# Altium footprint library WA-BCMC.PcbLib: 6 footprints
Each footprint in its own frame and in the unit in brackets; x right, y up, seen from the top. Pads: shape width x height; smd on the part's side, far side on the other; paste and mask are expansions set on the pad; w line width, h text height; cw(c..) or ccw(c..) is an arc to the next point about the centre after c.
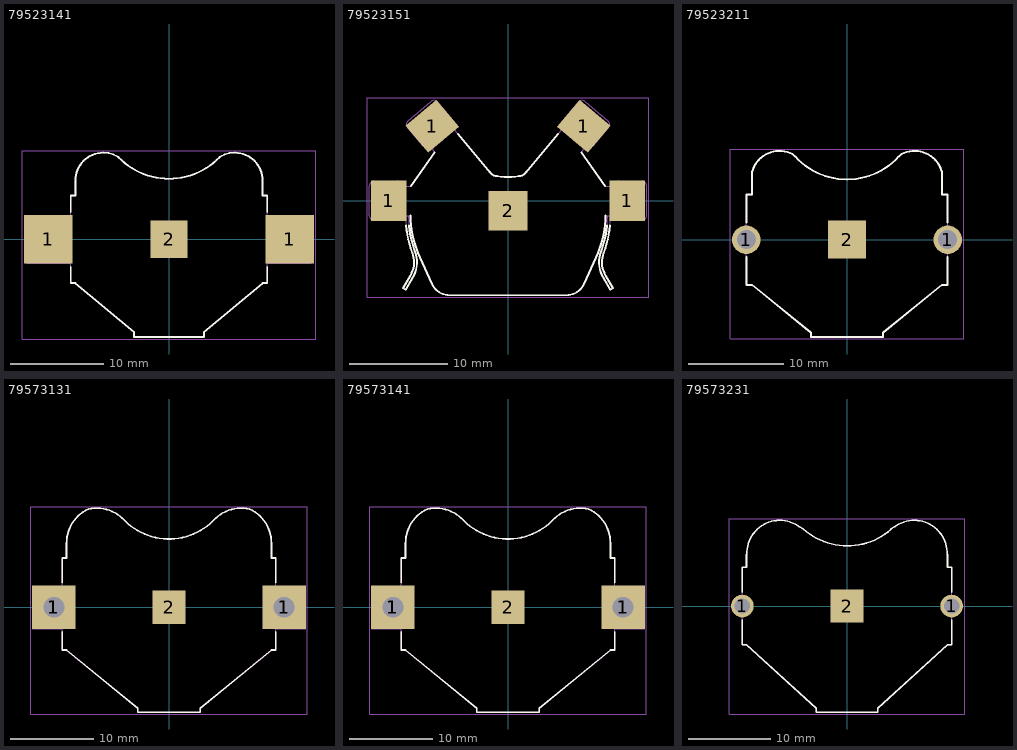
[diagram p0: the footprints below, top view; thin cyan lines are the x and y axes]

## 79523141 [mm] "Battery Holder, Battery Type: 2016,2020,2025,2032"
height 3.85
pads (3):
  rect 5.2x5.2 smd: 1(-12.95,0) 1(12.95,0)
  rect 4x4 smd: 2(0,0)
Top Overlay:
  lines w0.2: -10.55,-2.95 -10.55,-4.7 -10.05,-4.7 -3.743,-9.992 ; -10.55,2.95 -10.55,4.7 -10.05,4.7 -10.05,6.3 cw(c-7.05,6.3) -5.426,8.823 ccw(c0,14) 5.426,8.823 cw(c7.05,6.3) 10.05,6.3 10.05,4.7 10.55,4.7 10.55,2.95 ; -3.75,-10 -3.75,-10.5 3.75,-10.5 3.75,-10 ; 3.743,-9.992 10.05,-4.7 10.55,-4.7 10.55,-2.95
Top Solder:
  region: -10.55,-4.7 -10.55,-2.55 -15.25,-2.55 -15.25,2.55 -10.55,2.55 -10.55,4.7 -10.05,4.7 -10.05,6.3 -10.05,6.569 -9.955,7.097 -9.767,7.6 -9.493,8.062 -9.141,8.468 -8.723,8.805 -8.251,9.062 -7.741,9.232 -7.21,9.308 -6.673,9.288 -6.148,9.174 -5.652,8.968 -5.426,8.823 -5.158,8.555 -4.582,8.062 -3.959,7.63 -3.296,7.263 -2.599,6.965 -1.876,6.738 -1.133,6.586 -0.379,6.51 0.379,6.51 1.133,6.586 1.876,6.738 2.599,6.965 3.296,7.263 3.959,7.63 4.582,8.062 5.158,8.555 5.426,8.823 5.652,8.968 6.148,9.174 6.673,9.288 7.21,9.308 7.741,9.232 8.251,9.062 8.723,8.805 9.141,8.468 9.493,8.062 9.767,7.6 9.955,7.097 10.05,6.569 10.05,6.3 10.05,4.7 10.55,4.7 10.55,2.55 15.25,2.55 15.25,-2.55 10.55,-2.55 10.55,-4.7 10.05,-4.7 3.743,-9.992 3.75,-10 3.75,-10.5 -3.75,-10.5 -3.75,-10 -3.743,-9.992 -10.05,-4.7
Notes:
  text "open landscape for no solder resist" at -10.35,-11.6 h0.81
Top Designator:
  text ".Designator" at -7.498,-0.5 h1.5
Top Component Outline:
  lines w0.1: -3.75,-10 -3.75,-10.5 3.75,-10.5 3.75,-10 ; -3.743,-9.992 -10.05,-4.7 -10.55,-4.7 -10.55,-2.55 -15.25,-2.55 -15.25,2.55 -10.55,2.55 -10.55,4.7 -10.05,4.7 -10.05,6.3 cw(c-7.05,6.3) -5.426,8.823 ccw(c0,14) 5.426,8.823 cw(c7.05,6.3) 10.05,6.3 10.05,4.7 10.55,4.7 10.55,2.55 15.25,2.55 15.25,-2.55 10.55,-2.55 10.55,-4.7 10.05,-4.7 3.743,-9.992
Top 3D Body:
  lines w0.1: -3.75,-10 -3.75,-10.5 3.75,-10.5 3.75,-10 ; -3.743,-9.992 -10.05,-4.7 -10.55,-4.7 -10.55,-2.55 -15.25,-2.55 -15.25,2.55 -10.55,2.55 -10.55,4.7 -10.05,4.7 -10.05,6.3 cw(c-7.05,6.3) -5.426,8.823 ccw(c0,14) 5.426,8.823 cw(c7.05,6.3) 10.05,6.3 10.05,4.7 10.55,4.7 10.55,2.55 15.25,2.55 15.25,-2.55 10.55,-2.55 10.55,-4.7 10.05,-4.7 3.743,-9.992
Top Courtyard:
  lines w0.05: -0.5,0 0.5,0 ; 0,-0.5 0,0.5 ; -15.75,-10.7 -15.75,9.5 15.75,9.5 15.75,-10.7 -15.75,-10.7
3D body "79523141.stp": height 4, standoff 0.15, extent -15.25,-10.5 15.25,9.3

## 79523151 [mm]
pads (5):
  rect 3.6x4.1 smd: 1(-12.105,0) 1(12.105,0)
  rect 3.6x4.1 smd rot 130: 1(-7.715,7.59)
  rect 3.6x4.1 smd rot 50: 1(7.715,7.59)
  rect 4x4 smd: 2(0,-1)
Top Overlay:
  lines w0.2: -10.367,-2.497 ccw(c-0.006,-1.595) -9.731,-5.283 cw(c-12.255,-6.241) -9.916,-7.59 -10.666,-8.889 -10.406,-9.039 -9.656,-7.74 ; -10.074,-2.497 ccw(c0.278,-1.491) -9.446,-5.179 cw(c-12.251,-6.244) -9.653,-7.743 ; -9.905,-1.5 ccw(c-0.005,-1.5) -8.938,-5.768 ; -9.865,1.5 -7.456,4.94 ; -8.935,-5.766 -7.735,-8.45 ccw(c-5.924,-7.599) -5.924,-9.6 5.915,-9.6 ; -5.089,6.794 -1.791,2.863 ; -1.846,2.93 ccw(c-1.025,3.5) -1.12,2.505 ccw(c-0.005,8.4) 1.12,2.506 ; 1.12,2.505 ccw(c1.025,3.5) 1.846,2.93 ; 1.791,2.863 5.089,6.794 ; 5.924,-9.6 ccw(c5.924,-7.599) 7.735,-8.45 8.935,-5.766 ; 7.456,4.94 9.865,1.5 ; 8.938,-5.768 ccw(c0.005,-1.5) 9.905,-1.5 ; 9.653,-7.743 cw(c12.251,-6.244) 9.446,-5.179 ccw(c-0.278,-1.491) 10.074,-2.497 ; 9.656,-7.74 10.406,-9.039 10.666,-8.889 9.916,-7.59 cw(c12.255,-6.241) 9.731,-5.283 ccw(c0.006,-1.595) 10.367,-2.497
Notes:
  lines w0.1: -8.938,-5.768 cw(c-0.005,-1.5) -9.905,-1.5 -10.775,-1.5 -10.775,1.5 -9.865,1.5 -7.456,4.94 -8.013,5.604 ; -8.935,-5.766 -7.735,-8.45 ccw(c-5.924,-7.599) -5.924,-9.6 5.915,-9.6 ; -8.013,5.604 -5.715,7.532 ; -5.711,7.535 -1.791,2.863 ; -1.846,2.93 ccw(c-1.025,3.5) -1.12,2.505 ccw(c-0.005,8.4) 1.12,2.506 ; 1.12,2.505 ccw(c1.025,3.5) 1.846,2.93 ; 1.791,2.863 5.711,7.535 ; 5.714,7.532 8.013,5.604 7.456,4.94 9.865,1.5 10.775,1.5 10.775,-1.5 9.905,-1.5 cw(c0.005,-1.5) 8.938,-5.768 ; 5.924,-9.6 ccw(c5.924,-7.599) 7.735,-8.45 8.935,-5.766
Top Designator:
  text ".Designator" at -7.498,-0.5 h1.5
Top Component Outline:
  lines w0.1: -10.406,-1.504 ccw(c-0.006,-1.595) -9.731,-5.283 cw(c-12.255,-6.241) -9.916,-7.59 -10.666,-8.889 -10.406,-9.039 -9.656,-7.74 ; -10.122,-1.5 ccw(c0.278,-1.491) -9.446,-5.179 cw(c-12.251,-6.244) -9.653,-7.743 ; -8.938,-5.768 cw(c-0.005,-1.5) -9.905,-1.5 -10.775,-1.5 cw(c-11.275,-1.5) -11.275,-2 -13.605,-2 cw(c-13.605,-1.5) -14.105,-1.5 -14.105,1.5 cw(c-13.605,1.5) -13.605,2 -11.275,2 cw(c-11.275,1.5) -10.775,1.5 -9.865,1.5 -7.456,4.94 -8.013,5.604 ; -8.935,-5.766 -7.735,-8.45 ccw(c-5.924,-7.599) -5.924,-9.6 5.915,-9.6 ; -8.009,5.607 cw(c-8.331,5.99) -8.714,5.669 -10.211,7.453 cw(c-9.828,7.775) -10.15,8.158 -7.852,10.086 cw(c-7.53,9.703) -7.147,10.025 -5.649,8.24 cw(c-6.032,7.918) -5.711,7.535 -1.791,2.863 ; -1.846,2.93 ccw(c-1.025,3.5) -1.12,2.505 ccw(c-0.005,8.4) 1.12,2.506 ; 1.12,2.505 ccw(c1.025,3.5) 1.846,2.93 ; 1.791,2.863 5.711,7.535 ; 5.924,-9.6 ccw(c5.924,-7.599) 7.735,-8.45 8.935,-5.766 ; 8.009,5.607 ccw(c8.331,5.99) 8.714,5.669 10.211,7.453 ccw(c9.828,7.775) 10.15,8.158 7.852,10.086 ccw(c7.53,9.703) 7.147,10.025 5.649,8.24 ; 8.013,5.604 7.456,4.94 9.865,1.5 10.775,1.5 cw(c11.275,1.5) 11.275,2 13.605,2 cw(c13.605,1.5) 14.105,1.5 14.105,-1.5 cw(c13.605,-1.5) 13.605,-2 11.275,-2 cw(c11.275,-1.5) 10.775,-1.5 9.905,-1.5 cw(c0.005,-1.5) 8.938,-5.768 ; 9.653,-7.743 cw(c12.251,-6.244) 9.446,-5.179 ccw(c-0.278,-1.491) 10.122,-1.5 ; 9.656,-7.74 10.406,-9.039 10.666,-8.889 9.916,-7.59 cw(c12.255,-6.241) 9.731,-5.283 ccw(c0.006,-1.595) 10.406,-1.504 ; 5.649,8.24 ccw(c6.032,7.918) 5.711,7.535 ; 5.649,8.24 ccw(c6.032,7.918) 5.711,7.535
Top Courtyard:
  lines w0.05: -0.5,0 0.5,0 ; 0,-0.5 0,0.5 ; -14.305,-9.8 14.305,-9.8 14.305,10.487 -14.305,10.487 -14.305,-9.8
3D body "Battery_Holder_clamping_SMD_Rev5.0_o_A_211022.stp": height 4, standoff 0.2, extent -14.104,-9.6 14.096,10.204

## 79523211 [mm] "Battery Holder, Battery Type: 2016,2020,2025,2032"
height 3.8
pads (3):
  round 3 hole 2: 1(-10.6,0) 1(10.6,0)
  rect 4x4 smd: 2(0,0)
Top Overlay:
  lines w0.2: -10.6,-1.8 -10.6,-4.75 -10,-4.75 -3.81,-9.762 -3.81,-10.25 3.81,-10.25 3.81,-9.762 10,-4.75 10.6,-4.75 10.6,-1.8 ; -10.6,1.8 -10.6,4.75 -10,4.75 -10,7.126 ; -9.998,7.126 cw(c-7.1,6.35) -5.737,9.023 ; -5.709,8.991 ccw(c-4.45,10.15) -5.469,8.775 ; -5.471,8.772 ccw(c0,13.74) 5.471,8.772 ; 5.469,8.775 ccw(c4.45,10.15) 5.709,8.991 ; 5.737,9.023 cw(c7.1,6.35) 9.998,7.126 ; 10,7.126 10,4.75 10.6,4.75 10.6,1.8
Top Solder:
  drawing of 1 lines, arcs and shapes, not listed
Notes:
  text "open landscape for no solder resist" at -9.75,-11.3 h0.81
Top Designator:
  text ".Designator" at -7.498,-0.5 h1.5
Top Component Outline:
  lines w0.1: -10,7.126 -10,4.75 -10.6,4.75 -10.6,-4.75 -10,-4.75 -3.81,-9.762 -3.81,-10.25 3.81,-10.25 3.81,-9.762 10,-4.75 10.6,-4.75 10.6,4.75 10,4.75 10,7.126 ; -9.998,7.126 cw(c-7.1,6.35) -5.737,9.023 ; -5.709,8.991 ccw(c-4.45,10.15) -5.469,8.775 ; -5.471,8.772 ccw(c0,13.74) 5.471,8.772 ; 5.469,8.775 ccw(c4.45,10.15) 5.709,8.991 ; 5.737,9.023 cw(c7.1,6.35) 9.998,7.126
Top 3D Body:
  lines w0.1: -10,7.126 -10,4.75 -10.6,4.75 -10.6,-4.75 -10,-4.75 -3.81,-9.762 -3.81,-10.25 3.81,-10.25 3.81,-9.762 10,-4.75 10.6,-4.75 10.6,4.75 10,4.75 10,7.126 ; -9.998,7.126 cw(c-7.1,6.35) -5.737,9.023 ; -5.709,8.991 ccw(c-4.45,10.15) -5.469,8.775 ; -5.471,8.772 ccw(c0,13.74) 5.471,8.772 ; 5.469,8.775 ccw(c4.45,10.15) 5.709,8.991 ; 5.737,9.023 cw(c7.1,6.35) 9.998,7.126
Top Courtyard:
  lines w0.05: -0.5,0 0.5,0 ; 0,-0.5 0,0.5 ; -12.3,-10.45 12.3,-10.45 12.3,9.55 -12.3,9.55 -12.3,-10.45
3D body "79523211.stp": height 4.02, standoff -2.1, extent -11.299,-10.25 11.299,9.35

## 79573131 [mm] "Battery Holder, Battery Type: 2430"
height 2.8
pads (5):
  round 3.75 hole 2.5: 1(-13.815,0) 1(13.815,0)
  rect 5.2x5.2 smd: 1(-13.815,0) 1(13.815,0)
  rect 4x4 smd: 2(0,0)
Top Overlay:
  lines w0.2: -12.8,-2.95 -12.8,-5.124 -12.3,-5.124 -3.749,-12.098 ; -12.8,2.95 -12.8,5.916 -12.3,5.916 -12.3,7.696 cw(c-7.8,7.696) -9.671,11.789 ; -9.668,11.784 cw(c-8.67,7.396) -5.599,10.685 ; -5.588,10.694 ccw(c0,15.696) 5.588,10.694 ; -3.75,-12.1 -3.75,-12.6 3.75,-12.6 3.75,-12.1 ; 3.749,-12.098 12.3,-5.124 12.8,-5.124 12.8,-2.95 ; 5.599,10.685 cw(c8.67,7.396) 9.668,11.784 ; 9.671,11.789 cw(c7.8,7.696) 12.3,7.696 ; 12.8,2.95 12.8,5.916 12.3,5.916 ; 12.3,5.916 12.3,7.696 ; 12.3,5.916 12.3,7.696
Top Solder:
  drawing of 1 lines, arcs and shapes, not listed
Notes:
  text "open landscape for no solder resist" at -9.15,-13.804 h0.81
Top Designator:
  text ".Designator" at -7.498,-0.5 h1.5
Top Component Outline:
  lines w0.1: -9.671,11.789 ccw(c-7.8,7.696) -12.3,7.696 -12.3,5.916 -12.8,5.916 -12.8,2.55 ; -9.668,11.784 cw(c-8.67,7.396) -5.599,10.685 ; -5.588,10.694 ccw(c0,15.696) 5.588,10.694 ; -3.75,-12.1 -3.75,-12.6 3.75,-12.6 3.75,-12.1 ; -3.749,-12.098 -12.3,-5.124 -12.8,-5.124 -12.8,-2.55 ; 3.749,-12.098 12.3,-5.124 12.8,-5.124 12.8,-2.55 ; 5.599,10.685 cw(c8.67,7.396) 9.668,11.784 ; 9.671,11.789 cw(c7.8,7.696) 12.3,7.696 ; -12.8,-2.55 -16.35,-2.55 -16.35,2.55 -12.8,2.55 ; -12.8,-2.55 -12.8,-2.55 ; -12.8,2.55 -12.8,2.55 ; 12.3,5.916 12.8,5.916 12.8,2.55 ; 12.3,5.916 12.3,7.696 ; 12.3,5.916 12.3,7.696 ; 12.8,-2.55 12.8,-2.55 ; 12.8,-2.55 16.35,-2.55 16.35,2.55 12.8,2.55 ; 12.8,2.55 12.8,2.55
Top 3D Body:
  lines w0.1: -9.671,11.789 ccw(c-7.8,7.696) -12.3,7.696 -12.3,5.916 -12.8,5.916 -12.8,2.55 ; -9.668,11.784 cw(c-8.67,7.396) -5.599,10.685 ; -5.588,10.694 ccw(c0,15.696) 5.588,10.694 ; -3.75,-12.1 -3.75,-12.6 3.75,-12.6 3.75,-12.1 ; -3.749,-12.098 -12.3,-5.124 -12.8,-5.124 -12.8,-2.55 ; 3.749,-12.098 12.3,-5.124 12.8,-5.124 12.8,-2.55 ; 5.599,10.685 cw(c8.67,7.396) 9.668,11.784 ; 9.671,11.789 cw(c7.8,7.696) 12.3,7.696 ; -12.8,-2.55 -12.8,-2.55 ; -12.8,-2.55 -16.35,-2.55 -16.35,2.55 -12.8,2.55 ; -12.8,2.55 -12.8,2.55 ; 12.3,5.916 12.3,7.696 ; 12.3,5.916 12.3,7.696 ; 12.3,5.916 12.8,5.916 12.8,2.55 ; 12.8,-2.55 16.35,-2.55 16.35,2.55 12.8,2.55 ; 12.8,-2.55 12.8,-2.55 ; 12.8,2.55 12.8,2.55
Top Courtyard:
  lines w0.05: -0.5,0.596 0.5,0.596 ; 0,0.096 0,1.096 ; -16.615,-12.8 -16.615,12.096 16.615,12.096 16.615,-12.8 -16.615,-12.8
3D body "79573131.stp": height 3.9, standoff 0.05, extent -16.35,-12.6 16.35,11.896

## 79573141 [mm] "Battery Holder, Battery Type: 2430"
height 2.8
pads (5):
  round 3.75 hole 2.5: 1(-13.815,0) 1(13.815,0)
  rect 5.2x5.2 smd: 1(-13.815,0) 1(13.815,0)
  rect 4x4 smd: 2(0,0)
Top Overlay:
  lines w0.2: -12.8,-2.95 -12.8,-5.124 -12.3,-5.124 -3.749,-12.098 ; -12.8,2.95 -12.8,5.916 -12.3,5.916 -12.3,7.696 cw(c-7.8,7.696) -9.671,11.789 ; -9.668,11.784 cw(c-8.67,7.396) -5.599,10.685 ; -5.588,10.694 ccw(c0,15.696) 5.588,10.694 ; -3.75,-12.1 -3.75,-12.6 3.75,-12.6 3.75,-12.1 ; 3.749,-12.098 12.3,-5.124 12.8,-5.124 12.8,-2.95 ; 5.599,10.685 cw(c8.67,7.396) 9.668,11.784 ; 9.671,11.789 cw(c7.8,7.696) 12.3,7.696 ; 12.8,2.95 12.8,5.916 12.3,5.916 ; 12.3,5.916 12.3,7.696 ; 12.3,5.916 12.3,7.696
Top Solder:
  drawing of 1 lines, arcs and shapes, not listed
Notes:
  text "open landscape for no solder resist" at -9.15,-13.804 h0.81
Top Designator:
  text ".Designator" at -7.498,-0.5 h1.5
Top Component Outline:
  lines w0.1: -9.671,11.789 ccw(c-7.8,7.696) -12.3,7.696 -12.3,5.916 -12.8,5.916 -12.8,2.55 ; -9.668,11.784 cw(c-8.67,7.396) -5.599,10.685 ; -5.588,10.694 ccw(c0,15.696) 5.588,10.694 ; -3.75,-12.1 -3.75,-12.6 3.75,-12.6 3.75,-12.1 ; -3.749,-12.098 -12.3,-5.124 -12.8,-5.124 -12.8,-2.55 ; 3.749,-12.098 12.3,-5.124 12.8,-5.124 12.8,-2.55 ; 5.599,10.685 cw(c8.67,7.396) 9.668,11.784 ; 9.671,11.789 cw(c7.8,7.696) 12.3,7.696 ; -12.8,-2.55 -12.8,-2.55 ; -12.8,-2.55 -16.35,-2.55 -16.35,2.55 -12.8,2.55 ; -12.8,2.55 -12.8,2.55 ; 12.3,5.916 12.3,7.696 ; 12.3,5.916 12.3,7.696 ; 12.3,5.916 12.8,5.916 12.8,2.55 ; 12.8,-2.55 16.35,-2.55 16.35,2.55 12.8,2.55 ; 12.8,-2.55 12.8,-2.55 ; 12.8,2.55 12.8,2.55
Top 3D Body:
  lines w0.1: -9.671,11.789 ccw(c-7.8,7.696) -12.3,7.696 -12.3,5.916 -12.8,5.916 -12.8,2.55 ; -9.668,11.784 cw(c-8.67,7.396) -5.599,10.685 ; -5.588,10.694 ccw(c0,15.696) 5.588,10.694 ; -3.75,-12.1 -3.75,-12.6 3.75,-12.6 3.75,-12.1 ; -3.749,-12.098 -12.3,-5.124 -12.8,-5.124 -12.8,-2.55 ; 3.749,-12.098 12.3,-5.124 12.8,-5.124 12.8,-2.55 ; 5.599,10.685 cw(c8.67,7.396) 9.668,11.784 ; 9.671,11.789 cw(c7.8,7.696) 12.3,7.696 ; -12.8,-2.55 -16.35,-2.55 -16.35,2.55 -12.8,2.55 ; -12.8,-2.55 -12.8,-2.55 ; -12.8,2.55 -12.8,2.55 ; 12.3,5.916 12.8,5.916 12.8,2.55 ; 12.3,5.916 12.3,7.696 ; 12.3,5.916 12.3,7.696 ; 12.8,-2.55 12.8,-2.55 ; 12.8,-2.55 16.35,-2.55 16.35,2.55 12.8,2.55 ; 12.8,2.55 12.8,2.55
Top Courtyard:
  lines w0.05: -0.5,0.596 0.5,0.596 ; 0,0.096 0,1.096 ; -16.615,-12.8 16.615,-12.8 16.615,12.096 -16.615,12.096 -16.615,-12.8
3D body "79573131.stp": height 3.9, standoff 0.05, extent -16.35,-12.6 16.35,11.896

## 79573231 [mm] "Battery Holder, Battery Type: 2430"
height 3.7
pads (3):
  round 2.75 hole 1.85: 1(-12.7,0) 1(12.7,0)
  rect 4x4 smd: 2(0,0)
Top Overlay:
  lines w0.2: -12.7,-1.7 -12.7,-4.7 -12.2,-4.7 -3.744,-12.394 ; -12.7,1.7 -12.7,4.7 -12.2,4.7 -12.2,6.2 ; -12.187,6.2 cw(c-9.3,6.1) -12.145,6.597 cw(c-8.15,6.4) -5.953,9.743 ccw(c-4.45,11.8) -5.629,9.541 ccw(c-4.125,11.598) -5.304,9.339 ; -5.296,9.348 ccw(c0.05,15.3) 5.34,9.299 ; -3.75,-12.4 -3.75,-12.9 3.75,-12.9 3.75,-12.4 ; 3.744,-12.394 12.2,-4.7 12.7,-4.7 12.7,-1.7 ; 5.304,9.339 ccw(c4.125,11.598) 5.629,9.541 ccw(c4.45,11.8) 5.953,9.743 cw(c8.15,6.4) 12.145,6.597 cw(c9.3,6.1) 12.187,6.2 ; 12.2,6.2 12.2,4.7 12.7,4.7 12.7,1.7
Top Solder:
  drawing of 1 lines, arcs and shapes, not listed
Notes:
  text "open landscape for no solder resist" at -9.45,-14.204 h0.81
Top Designator:
  text ".Designator" at -7.498,-0.5 h1.5
Top Component Outline:
  lines w0.1: -12.2,6.2 -12.2,4.7 -12.7,4.7 -12.7,-4.7 -12.2,-4.7 -3.744,-12.394 ; -12.187,6.2 cw(c-9.3,6.1) -12.145,6.597 cw(c-8.15,6.4) -5.953,9.743 ccw(c-4.45,11.8) -5.629,9.541 ccw(c-4.125,11.598) -5.304,9.339 ; -5.296,9.348 ccw(c0.05,15.3) 5.34,9.299 ; -3.75,-12.4 -3.75,-12.9 3.75,-12.9 3.75,-12.4 ; 3.744,-12.394 12.2,-4.7 12.7,-4.7 12.7,4.7 12.2,4.7 12.2,6.2 ; 5.304,9.339 ccw(c4.125,11.598) 5.629,9.541 ccw(c4.45,11.8) 5.953,9.743 cw(c8.15,6.4) 12.145,6.597 cw(c9.3,6.1) 12.187,6.2
Top 3D Body:
  lines w0.1: -12.2,6.2 -12.2,4.7 -12.7,4.7 -12.7,-4.7 -12.2,-4.7 -3.744,-12.394 ; -12.187,6.2 cw(c-9.3,6.1) -12.145,6.597 cw(c-8.15,6.4) -5.953,9.743 ccw(c-4.45,11.8) -5.629,9.541 ccw(c-4.125,11.598) -5.304,9.339 ; -5.296,9.348 ccw(c0.05,15.3) 5.34,9.299 ; -3.75,-12.4 -3.75,-12.9 3.75,-12.9 3.75,-12.4 ; 3.744,-12.394 12.2,-4.7 12.7,-4.7 12.7,4.7 12.2,4.7 12.2,6.2 ; 5.304,9.339 ccw(c4.125,11.598) 5.629,9.541 ccw(c4.45,11.8) 5.953,9.743 cw(c8.15,6.4) 12.145,6.597 cw(c9.3,6.1) 12.187,6.2
Top Courtyard:
  lines w0.05: -0.5,0 0.5,0 ; 0,-0.5 0,0.5 ; -14.275,-13.1 14.275,-13.1 14.275,10.6 -14.275,10.6 -14.275,-13.1
3D body "79573231.stp": height 3.8, standoff -2.9, extent -13.546,-12.9 13.546,10.4